# Altium footprint library PcbLib-zasilanie.PcbLib: 2 footprints
Each footprint in its own frame and in the unit in brackets; x right, y up, seen from the top. Pads: shape width x height; smd on the part's side, far side on the other; paste and mask are expansions set on the pad; w line width, h text height; cw(c..) or ccw(c..) is an arc to the next point about the centre after c.
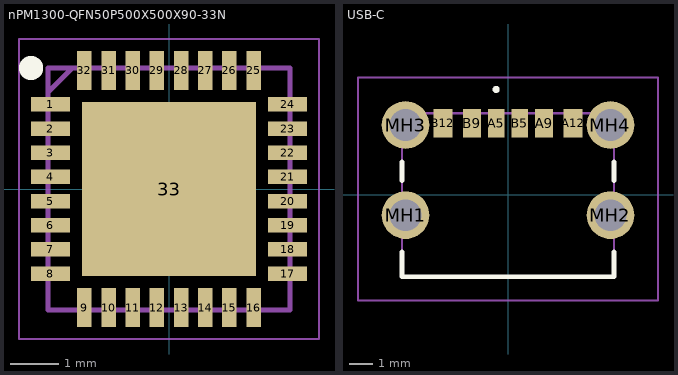
[diagram p0: the footprints below, top view; thin cyan lines are the x and y axes]

## nPM1300-QFN50P500X500X90-33N [mm]
pads (33):
  rect 0.8x0.3 smd: 1(-2.45,1.75) 2(-2.45,1.25) 3(-2.45,0.75) 4(-2.45,0.25) 5(-2.45,-0.25) 6(-2.45,-0.75) 7(-2.45,-1.25) 8(-2.45,-1.75) 17(2.45,-1.75) 18(2.45,-1.25) 19(2.45,-0.75) 20(2.45,-0.25) 21(2.45,0.25) 22(2.45,0.75) 23(2.45,1.25) 24(2.45,1.75)
  rect 0.3x0.8 smd: 9(-1.75,-2.45) 10(-1.25,-2.45) 11(-0.75,-2.45) 12(-0.25,-2.45) 13(0.25,-2.45) 14(0.75,-2.45) 15(1.25,-2.45) 16(1.75,-2.45) 25(1.75,2.45) 26(1.25,2.45) 27(0.75,2.45) 28(0.25,2.45) 29(-0.25,2.45) 30(-0.75,2.45) 31(-1.25,2.45) 32(-1.75,2.45)
  rect 3.6x3.6 smd: 33(0,0)
Top Overlay:
  circle w0.25: c-2.85,2.5 r0.125
Top Component Outline:
  lines w0.1: -2.5,2 -2,2.5 ; -2.5,-2.5 2.5,-2.5 2.5,2.5 -2.5,2.5 -2.5,-2.5
Top Assembly:
  lines w0.05: -3.1,-3.1 3.1,-3.1 3.1,3.1 -3.1,3.1 -3.1,-3.1
3D body "NPM1300-QEAA-R.stp": height 0.9, standoff 0, extent -2.55,-2.55 2.55,2.55

## USB-C [mm]
pads (10):
  rect 0.7x1.2 smd: A5(-0.5,3.03) B5(0.5,3.03)
  rect 0.76x1.2 smd: A9(1.52,3.03) B9(-1.52,3.03)
  rect 0.8x1.2 smd: A12(2.75,3.03) B12(-2.75,3.03)
  round 2.01 hole 1.34: MH1(-4.32,-0.85) MH2(4.32,-0.85) MH3(-4.32,2.95) MH4(4.32,2.95)
Top Overlay:
  lines w0.2: -4.47,-2.4 -4.47,-3.45 4.47,-3.45 4.47,-2.4 ; -4.47,0.6 -4.47,1.4 ; 4.47,0.6 4.47,1.4 ; -0.5,4.4 cw(c-0.5,4.45) -0.5,4.5 ; -0.5,4.4 ccw(c-0.5,4.45) -0.5,4.5 ; -0.5,4.4 cw(c-0.5,4.45) -0.5,4.5
Top Component Outline:
  lines w0.1: -4.47,-3.45 -4.47,3.45 4.47,3.45 4.47,-3.45 -4.47,-3.45
Top Assembly:
  lines w0.1: -6.325,-4.45 6.325,-4.45 6.325,4.955 -6.325,4.955 -6.325,-4.45
3D body: height 0.25, standoff 0, extent -4.47,-3.44 4.47,3.46